# Altium schematic symbol library Connector#csv.SchLib: 47 symbols
Pins are listed as number, name and electrical type; pins without a type are passive.

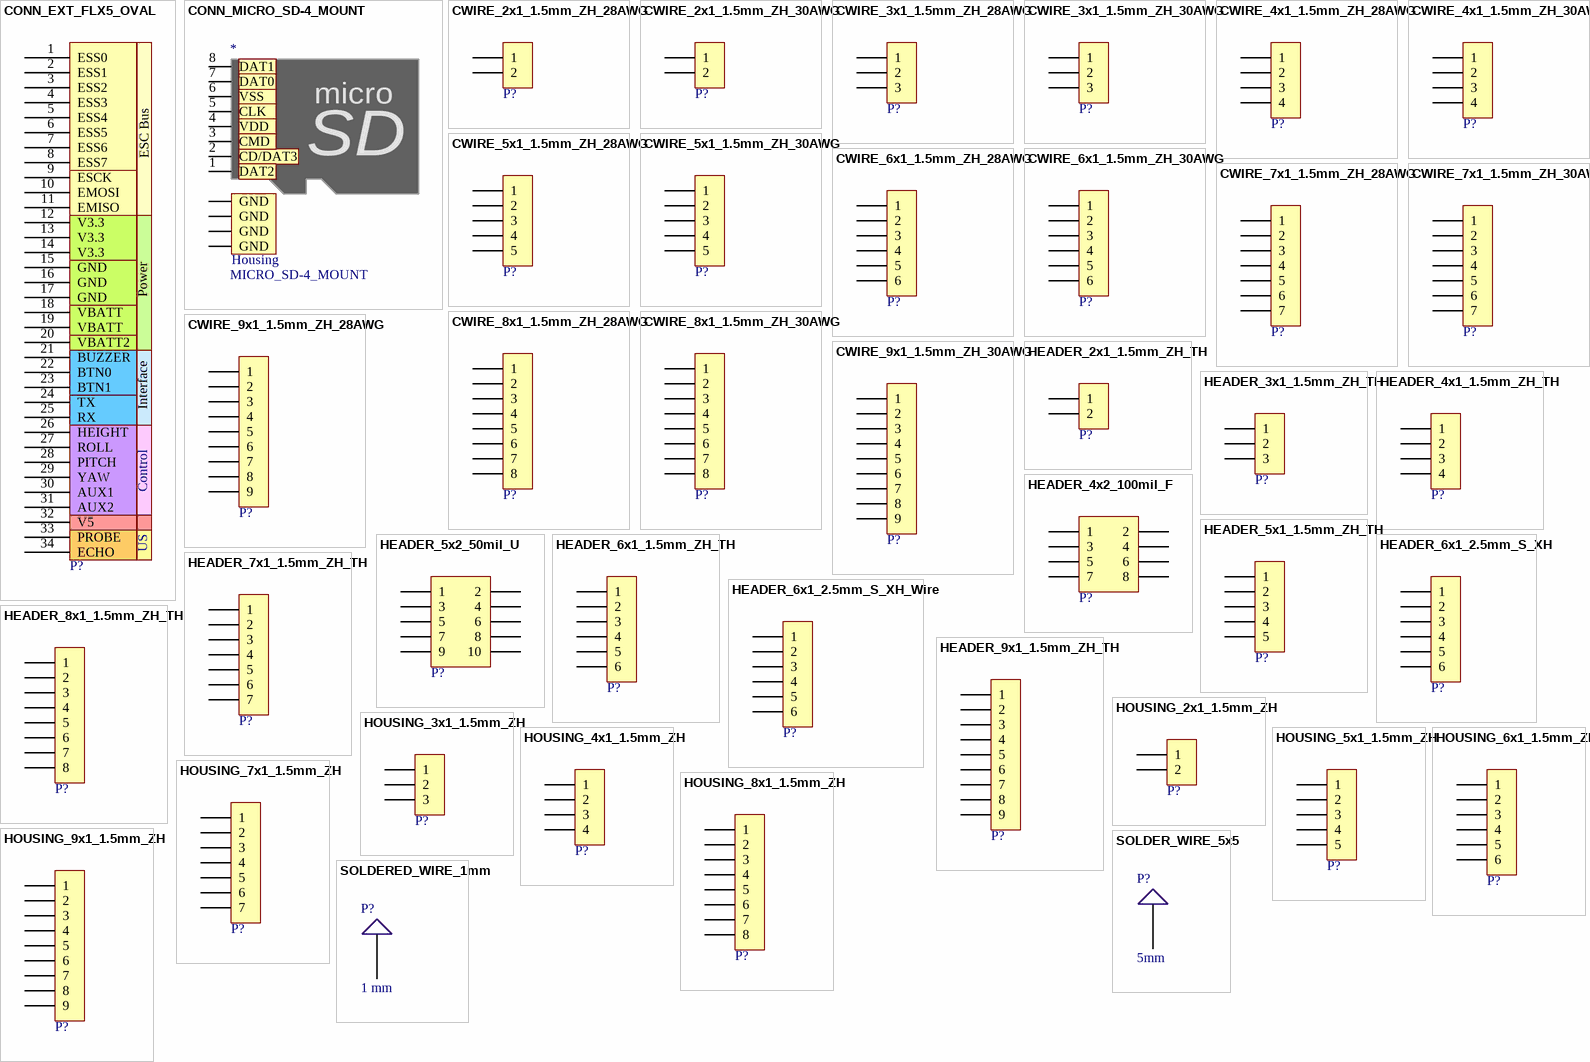
[diagram p0: symbols CONN_EXT_FLX5_OVAL to SOLDERED_WIRE_1mm]

## CONN_EXT_FLX5_OVAL
designator P?, comment CONN_EXT_FLX5  (value not drawn)  (no BOM)
Holes for soldered ribbon cable; Name: CONN_EXT_FLX5_OVAL
footprint HOLE_.4mm_I.05P_OVAL-34
pins: 1 ESS0, 2 ESS1, 3 ESS2, 4 ESS3, 5 ESS4, 6 ESS5, 7 ESS6, 8 ESS7, 9 ESCK, 10 EMOSI, 11 EMISO, 12 V3.3, 13 V3.3, 14 V3.3, 15 GND, 16 GND, 17 GND, 18 VBATT, 19 VBATT, 20 VBATT2, 21 BUZZER, 22 BTN0, 23 BTN1, 24 TX, 25 RX, 26 HEIGHT, 27 ROLL, 28 PITCH, 29 YAW, 30 AUX1, 31 AUX2, 32 V5, 33 PROBE, 34 ECHO
text: ESC Bus; Power; Interface; Control; US

## CONN_MICRO_SD-4_MOUNT
designator *, comment MICRO_SD-4_MOUNT
CONN MEMORY CARD R/A 8POS SMD; Manufacturer: Molex; Manufacturer Part Number: 472192001; Name: CONN_MICRO_SD-4_MOUNT; Supplier 1: Digi-Key; Supplier Part Number 1: WM6698CT-ND
footprint X-MOLX_472192001
pins: 1 DAT2, 2 CD/DAT3, 3 CMD, 4 VDD, 5 CLK, 6 VSS, 7 DAT0, 8 DAT1, MOUNT1 GND, MOUNT2 GND, MOUNT3 GND, MOUNT4 GND
text: micro; SD; Housing

## CWIRE_2x1_1.5mm_ZH_28AWG
designator P?, comment HEADER-2x1_Mech  (value not drawn)  (mechanical)
CONN IDC ZR 2POS 1.5MM 28AWG; Manufacturer: JST Sales America Inc; Manufacturer Part Number: 02ZR-8M-P; Name: CWIRE_2x1_1.5mm_ZH_28AWG; Supplier 1: Digi-Key; Supplier Part Number 1: 455-2289-ND
pins: 1, 2

## CWIRE_2x1_1.5mm_ZH_30AWG
designator P?, comment HEADER-2x1_Mech  (value not drawn)  (mechanical)
CONN IDC ZR 2POS 1.5MM 30AWG; Manufacturer: JST Sales America Inc; Manufacturer Part Number: 02ZR-3H-P; Name: CWIRE_2x1_1.5mm_ZH_30AWG; Supplier 1: Digi-Key; Supplier Part Number 1: 455-2278-ND
pins: 1, 2

## CWIRE_3x1_1.5mm_ZH_28AWG
designator P?, comment HEADER-3x1_Mech  (value not drawn)  (mechanical)
CONN IDC ZR 3POS 1.5MM 28AWG; Manufacturer: JST Sales America Inc; Manufacturer Part Number: 03ZR-8M-P; Name: CWIRE_3x1_1.5mm_ZH_28AWG; Supplier 1: Digi-Key; Supplier Part Number 1: 455-2290-ND
pins: 1, 2, 3

## CWIRE_3x1_1.5mm_ZH_30AWG
designator P?, comment HEADER-3x1_Mech  (value not drawn)  (mechanical)
CONN IDC ZR 3POS 1.5MM 30AWG; Manufacturer: JST Sales America Inc; Manufacturer Part Number: 03ZR-3H-P; Name: CWIRE_3x1_1.5mm_ZH_30AWG; Supplier 1: Digi-Key; Supplier Part Number 1: 455-2279-ND
pins: 1, 2, 3

## CWIRE_4x1_1.5mm_ZH_28AWG
designator P?, comment HEADER-4x1_Mech  (value not drawn)  (mechanical)
CONN IDC ZR 4POS 1.5MM 28AWG; Manufacturer: JST Sales America Inc; Manufacturer Part Number: 04ZR-8M-P; Name: CWIRE_4x1_1.5mm_ZH_28AWG; Supplier 1: Digi-Key; Supplier Part Number 1: 455-2291-ND
pins: 1, 2, 3, 4

## CWIRE_4x1_1.5mm_ZH_30AWG
designator P?, comment HEADER-4x1_Mech  (value not drawn)  (mechanical)
CONN IDC ZR 4POS 1.5MM 30AWG; Manufacturer: JST Sales America Inc; Manufacturer Part Number: 04ZR-3H-P; Name: CWIRE_4x1_1.5mm_ZH_30AWG; Supplier 1: Digi-Key; Supplier Part Number 1: 455-2280-ND
pins: 1, 2, 3, 4

## CWIRE_5x1_1.5mm_ZH_28AWG
designator P?, comment HEADER-5x1_Mech  (value not drawn)  (mechanical)
CONN IDC ZR 5POS 1.5MM 28AWG; Manufacturer: JST Sales America Inc; Manufacturer Part Number: 05ZR-8M-P; Name: CWIRE_5x1_1.5mm_ZH_28AWG; Supplier 1: Digi-Key; Supplier Part Number 1: 455-2292-ND
pins: 1, 2, 3, 4, 5

## CWIRE_5x1_1.5mm_ZH_30AWG
designator P?, comment HEADER-5x1_Mech  (value not drawn)  (mechanical)
CONN IDC ZR 5POS 1.5MM 30AWG; Manufacturer: JST Sales America Inc; Manufacturer Part Number: 05ZR-3H-P; Name: CWIRE_5x1_1.5mm_ZH_30AWG; Supplier 1: Digi-Key; Supplier Part Number 1: 455-2281-ND
pins: 1, 2, 3, 4, 5

## CWIRE_6x1_1.5mm_ZH_28AWG
designator P?, comment HEADER-6x1_Mech  (value not drawn)  (mechanical)
CONN IDC ZR 6POS 1.5MM 28AWG; Manufacturer: JST Sales America Inc; Manufacturer Part Number: 06ZR-8M-P; Name: CWIRE_6x1_1.5mm_ZH_28AWG; Supplier 1: Digi-Key; Supplier Part Number 1: 455-2293-ND
pins: 1, 2, 3, 4, 5, 6

## CWIRE_6x1_1.5mm_ZH_30AWG
designator P?, comment HEADER-6x1_Mech  (value not drawn)  (mechanical)
CONN IDC ZR 6POS 1.5MM 30AWG; Manufacturer: JST Sales America Inc; Manufacturer Part Number: 06ZR-3H-P; Name: CWIRE_6x1_1.5mm_ZH_30AWG; Supplier 1: Digi-Key; Supplier Part Number 1: 455-2282-ND
pins: 1, 2, 3, 4, 5, 6

## CWIRE_7x1_1.5mm_ZH_28AWG
designator P?, comment HEADER-7x1_Mech  (value not drawn)  (mechanical)
CONN IDC ZR 7POS 1.5MM 28AWG; Manufacturer: JST Sales America Inc; Manufacturer Part Number: 07ZR-8M-P; Name: CWIRE_7x1_1.5mm_ZH_28AWG; Supplier 1: Digi-Key; Supplier Part Number 1: 455-2294-ND
pins: 1, 2, 3, 4, 5, 6, 7

## CWIRE_7x1_1.5mm_ZH_30AWG
designator P?, comment HEADER-7x1_Mech  (value not drawn)  (mechanical)
CONN IDC ZR 7POS 1.5MM 30AWG; Manufacturer: JST Sales America Inc; Manufacturer Part Number: 07ZR-3H-P; Name: CWIRE_7x1_1.5mm_ZH_30AWG; Supplier 1: Digi-Key; Supplier Part Number 1: 455-2283-ND
pins: 1, 2, 3, 4, 5, 6, 7

## CWIRE_8x1_1.5mm_ZH_28AWG
designator P?, comment HEADER-8x1_Mech  (value not drawn)  (mechanical)
CONN IDC ZR 8POS 1.5MM 28AWG; Manufacturer: JST Sales America Inc; Manufacturer Part Number: 08ZR-3H-P; Name: CWIRE_8x1_1.5mm_ZH_28AWG; Supplier 1: Digi-Key; Supplier Part Number 1: 455-2295-ND
pins: 1, 2, 3, 4, 5, 6, 7, 8

## CWIRE_8x1_1.5mm_ZH_30AWG
designator P?, comment HEADER-8x1_Mech  (value not drawn)  (mechanical)
CONN IDC ZR 8POS 1.5MM 30AWG; Manufacturer: JST Sales America Inc; Manufacturer Part Number: 08ZR-3H-P; Name: CWIRE_8x1_1.5mm_ZH_30AWG; Supplier 1: Digi-Key; Supplier Part Number 1: 455-2284-ND
pins: 1, 2, 3, 4, 5, 6, 7, 8

## CWIRE_9x1_1.5mm_ZH_28AWG
designator P?, comment HEADER-9x1_Mech  (value not drawn)  (mechanical)
CONN IDC ZR 9POS 1.5MM 28AWG; Manufacturer: JST Sales America Inc; Manufacturer Part Number: 09ZR-8M-P; Name: CWIRE_9x1_1.5mm_ZH_28AWG; Supplier 1: Digi-Key; Supplier Part Number 1: 455-2296-ND
pins: 1, 2, 3, 4, 5, 6, 7, 8, 9

## CWIRE_9x1_1.5mm_ZH_30AWG
designator P?, comment HEADER-9x1_Mech  (value not drawn)  (mechanical)
CONN IDC ZR 9POS 1.5MM 30AWG; Manufacturer: JST Sales America Inc; Manufacturer Part Number: 09ZR-3H-P; Name: CWIRE_9x1_1.5mm_ZH_30AWG; Supplier 1: Digi-Key; Supplier Part Number 1: 09ZR-3H-P-ND
pins: 1, 2, 3, 4, 5, 6, 7, 8, 9

## HEADER_2x1_1.5mm_ZH_TH
designator P?, comment HEADER-2x1  (value not drawn)
CONN HEADER ZH SIDE 2POS 1.5MM; Manufacturer: JST Sales America Inc; Manufacturer Part Number: S2B-ZR(LF)(SN); Name: HEADER_2x1_1.5mm_ZH_TH; Supplier 1: Digi-Key; Supplier Part Number 1: 455-1669-ND
footprint X-JST-S2B-ZR
pins: 1, 2

## HEADER_3x1_1.5mm_ZH_TH
designator P?, comment HEADER-3x1  (value not drawn)
CONN HEADER ZH SIDE 3POS 1.5MM; Manufacturer: JST Sales America Inc; Manufacturer Part Number: S3B-ZR(LF)(SN); Name: HEADER_3x1_1.5mm_ZH_TH; Supplier 1: Digi-Key; Supplier Part Number 1: 455-1670-ND
footprint X-JST-S3B-ZR
pins: 1, 2, 3

## HEADER_4x1_1.5mm_ZH_TH
designator P?, comment HEADER-4x1  (value not drawn)
CONN HEADER ZH SIDE 4POS 1.5MM; Manufacturer: JST Sales America Inc; Manufacturer Part Number: S4B-ZR(LF)(SN); Name: HEADER_4x1_1.5mm_ZH_TH; Supplier 1: Digi-Key; Supplier Part Number 1: 455-1671-ND
footprint X-JST-S4B-ZR
pins: 1, 2, 3, 4

## HEADER_4x2_100mil_F
designator P?, comment HEADER-4x2S  (value not drawn)
CONN HEADER FMAL 8PS .1" DL GOLD; Name: HEADER_4x2_100mil_F; Supplier 1: SyC; Supplier Part Number 1: PB08D-H
footprint G-HEADER_4x2I.1P_TH
pins: 1, 2, 3, 4, 5, 6, 7, 8

## HEADER_5x1_1.5mm_ZH_TH
designator P?, comment HEADER-5x1  (value not drawn)
CONN HEADER ZH SIDE 5POS 1.5MM; Manufacturer: JST Sales America Inc; Manufacturer Part Number: S5B-ZR(LF)(SN); Name: HEADER_5x1_1.5mm_ZH_TH; Supplier 1: Digi-Key; Supplier Part Number 1: 455-1672-ND
footprint X-JST-S5B-ZR
pins: 1, 2, 3, 4, 5

## HEADER_5x2_50mil_U
designator P?, comment HEADER-5x2S  (value not drawn)
CONN HEADER 10POS DL UNSHRD SMD; Name: HEADER_5x2_50mil_U
footprint G-HEADER_5x2I.05P_SM
pins: 1, 2, 3, 4, 5, 6, 7, 8, 9, 10

## HEADER_6x1_1.5mm_ZH_TH
designator P?, comment HEADER-6x1  (value not drawn)
CONN HEADER ZH SIDE 6POS 1.5MM; Manufacturer: JST Sales America Inc; Manufacturer Part Number: S6B-ZR(LF)(SN); Name: HEADER_6x1_1.5mm_ZH_TH; Supplier 1: Digi-Key; Supplier Part Number 1: 455-1673-ND
footprint X-JST-S6B-ZR
pins: 1, 2, 3, 4, 5, 6

## HEADER_6x1_2.5mm_S_XH
designator P?, comment HEADER-6x1  (value not drawn)
CONN HEADER XH TOP 6POS 2.5MM; Name: HEADER_6x1_2.5mm_S_XH; Supplier 1: SyC; Supplier Part Number 1: 2317SJ-06
footprint G-HEADER_6x1M2.5PS(XH)
pins: 1, 2, 3, 4, 5, 6

## HEADER_6x1_2.5mm_S_XH_Wire
designator P?, comment HEADER-6x1_Mech  (value not drawn)  (mechanical)
CONN HOUSING 2.5MM XH 6POS; Name: HEADER_6x1_2.5mm_S_XH_Wire; Supplier 1: Syc; Supplier Part Number 1: 2318HJ-06
pins: 1, 2, 3, 4, 5, 6

## HEADER_7x1_1.5mm_ZH_TH
designator P?, comment HEADER-7x1  (value not drawn)
CONN HEADER ZH SIDE 7POS 1.5MM; Manufacturer: JST Sales America Inc; Manufacturer Part Number: S7B-ZR(LF)(SN); Name: HEADER_7x1_1.5mm_ZH_TH; Supplier 1: Digi-Key; Supplier Part Number 1: 455-1674-ND
footprint X-JST-S7B-ZR
pins: 1, 2, 3, 4, 5, 6, 7

## HEADER_8x1_1.5mm_ZH_TH
designator P?, comment HEADER-8x1  (value not drawn)
CONN HEADER ZH SIDE 8POS 1.5MM; Manufacturer: JST Sales America Inc; Manufacturer Part Number: S8B-ZR(LF)(SN); Name: HEADER_8x1_1.5mm_ZH_TH; Supplier 1: Digi-Key; Supplier Part Number 1: 455-1675-ND
footprint X-JST-S8B-ZR
pins: 1, 2, 3, 4, 5, 6, 7, 8

## HEADER_9x1_1.5mm_ZH_TH
designator P?, comment HEADER-9x1  (value not drawn)
CONN HEADER ZH SIDE 9POS 1.5MM; Manufacturer: JST Sales America Inc; Manufacturer Part Number: S9B-ZR(LF)(SN); Name: HEADER_9x1_1.5mm_ZH_TH; Supplier 1: Digi-Key; Supplier Part Number 1: 455-1676-ND
footprint X-JST-S9B-ZR
pins: 1, 2, 3, 4, 5, 6, 7, 8, 9

## HOUSING_2x1_1.5mm_ZH
designator P?, comment HEADER-2x1_Mech  (value not drawn)  (mechanical)
CONN HOUSING ZH 2POS 1.5MM WHT; Manufacturer: JST Sales America Inc; Manufacturer Part Number: ZHR-2; Name: HOUSING_2x1_1.5mm_ZH; Supplier 1: Digi-Key; Supplier Part Number 1: 455-1366-ND
pins: 1, 2

## HOUSING_3x1_1.5mm_ZH
designator P?, comment HEADER-3x1_Mech  (value not drawn)  (mechanical)
CONN HOUSING ZH 3POS 1.5MM WHT; Manufacturer: JST Sales America Inc; Manufacturer Part Number: ZHR-3; Name: HOUSING_3x1_1.5mm_ZH; Supplier 1: Digi-Key; Supplier Part Number 1: 455-1160-ND
pins: 1, 2, 3

## HOUSING_4x1_1.5mm_ZH
designator P?, comment HEADER-4x1_Mech  (value not drawn)  (mechanical)
CONN HOUSING ZH 4POS 1.5MM WHT; Manufacturer: JST Sales America Inc; Manufacturer Part Number: ZHR-4; Name: HOUSING_4x1_1.5mm_ZH; Supplier 1: Digi-Key; Supplier Part Number 1: 455-1202-ND
pins: 1, 2, 3, 4

## HOUSING_5x1_1.5mm_ZH
designator P?, comment HEADER-5x1_Mech  (value not drawn)  (mechanical)
CONN HOUSING ZH 5POS 1.5MM WHT; Manufacturer: JST Sales America Inc; Manufacturer Part Number: ZHR-5; Name: HOUSING_5x1_1.5mm_ZH; Supplier 1: Digi-Key; Supplier Part Number 1: 455-1201-ND
pins: 1, 2, 3, 4, 5

## HOUSING_6x1_1.5mm_ZH
designator P?, comment HEADER-6x1_Mech  (value not drawn)  (mechanical)
CONN HOUSING ZH 6POS 1.5MM; Manufacturer: JST Sales America Inc; Manufacturer Part Number: ZHR-6; Name: HOUSING_6x1_1.5mm_ZH; Supplier 1: Digi-Key; Supplier Part Number 1: 455-1129-ND
pins: 1, 2, 3, 4, 5, 6

## HOUSING_7x1_1.5mm_ZH
designator P?, comment HEADER-7x1_Mech  (value not drawn)  (mechanical)
CONN HOUSING ZH 7POS 1.5MM WHT; Manufacturer: JST Sales America Inc; Manufacturer Part Number: ZHR-7; Name: HOUSING_7x1_1.5mm_ZH; Supplier 1: Digi-Key; Supplier Part Number 1: 455-1200-ND
pins: 1, 2, 3, 4, 5, 6, 7

## HOUSING_8x1_1.5mm_ZH
designator P?, comment HEADER-8x1_Mech  (value not drawn)  (mechanical)
CONN HOUSING ZH 8POS 1.5MM WHT; Manufacturer: JST Sales America Inc; Manufacturer Part Number: ZHR-8; Name: HOUSING_8x1_1.5mm_ZH; Supplier 1: Digi-Key; Supplier Part Number 1: 455-1199-ND
pins: 1, 2, 3, 4, 5, 6, 7, 8

## HOUSING_9x1_1.5mm_ZH
designator P?, comment HEADER-9x1_Mech  (value not drawn)  (mechanical)
CONN HOUSING ZH 9POS 1.5MM WHT; Manufacturer: JST Sales America Inc; Manufacturer Part Number: ZHR-9; Name: HOUSING_9x1_1.5mm_ZH; Supplier 1: Digi-Key; Supplier Part Number 1: 455-1196-ND
pins: 1, 2, 3, 4, 5, 6, 7, 8, 9

## SOLDER_WIRE_5x5
designator P?, comment 5mm  (no BOM)
Pad to solder wire; Name: SOLDER_WIRE_5x5; Value: 5mm
footprint SQUARE_PAD_5mm
pins: 1 Wire

## SOLDERED_WIRE_1mm
designator P?, comment 1 mm  (no BOM)
Pad to solder wire; Name: SOLDERED_WIRE_1mm; Value: 1 mm
footprint HOLE_1mm
pins: 1 Wire

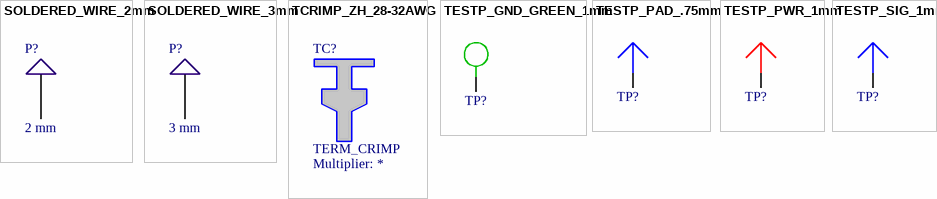
[diagram p1: symbols SOLDERED_WIRE_2mm to TESTP_SIG_1mm]

## SOLDERED_WIRE_2mm
designator P?, comment 2 mm  (no BOM)
Pad to solder wire; Name: SOLDERED_WIRE_2mm; Value: 2 mm
footprint HOLE_2mm
pins: 1 Wire

## SOLDERED_WIRE_3mm
designator P?, comment 3 mm  (no BOM)
Pad to solder wire; Name: SOLDERED_WIRE_3mm; Value: 3 mm
footprint HOLE_3mm
pins: 1 Wire

## TCRIMP_ZH_28-32AWG
designator TC?, comment TERM_CRIMP  (mechanical)
CONN TERM CRIMP ZH 28-32AWG TIN; Manufacturer: JST Sales America Inc; Manufacturer Part Number: SZH-003T-P0.5; Name: TCRIMP_ZH_28-32AWG; Multiplier: *; Supplier 1: Digi-Key; Supplier Part Number 1: 455-1281-1-ND

## TESTP_GND_GREEN_1mm
designator TP?, comment TESTPOINT-CIRCLE-GREEN  (value not drawn)
Ground Connection; Name: TESTP_GND_GREEN_1mm
footprint G-PIN_1mm-CROSS
pins: 1

## TESTP_PAD_.75mm
designator TP?, comment TESTPOINT-ARROW-BLUE  (value not drawn)
Round Test Point on Board; Name: TESTP_PAD_.75mm; Value: 0.75mm
footprint TESTP_PAD_.75mm
pins: 1

## TESTP_PWR_1mm
designator TP?, comment TESTPOINT-ARROW-RED  (value not drawn)
Tespoint for Power Trace; Name: TESTP_PWR_1mm
footprint G-PIN_1mm-CIRCLE
pins: 1

## TESTP_SIG_1mm
designator TP?, comment TESTPOINT-ARROW-BLUE  (value not drawn)
Tespoint; Name: TESTP_SIG_1mm
footprint G-PIN_1mm-CIRCLE
pins: 1